# EAGLE library part MIC4604YM (library MIC4604)
IC DRIVER MOSFET 85V 8-SOIC
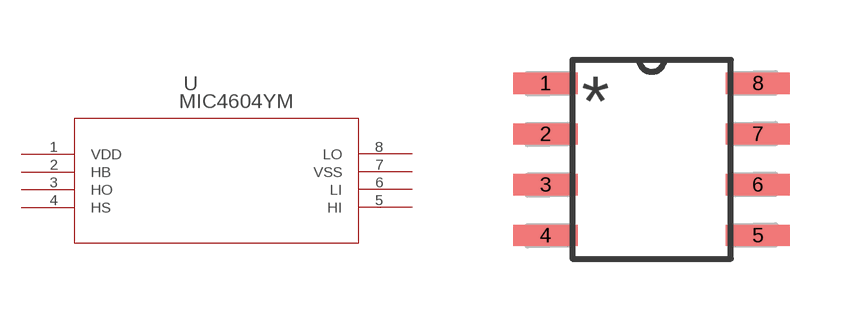
[diagram p0: symbol with the pads of SOIC-8_M; footprint SOIC-8_M]

Designator prefix U

## MIC4604YM (DIGIKEY_PART_NUMBER: 576-4395-1-ND; MANUFACTURER: Microchip; MANUFACTURER_PART_NUMBER: MIC4604YM-T5; PRICE: $1.25)  [SOIC-8_M]
1  VDD  pwr
2  HB  pas
3  HO  out
4  HS  pas
5  HI  in
6  LI  in
7  VSS  pwr
8  LO  out

## Footprint SOIC-8_M (pad centres in mm)
smd 1.6 x 0.533: 1 -2.654,1.905; 2 -2.654,0.635; 3 -2.654,-0.635; 4 -2.654,-1.905; 5 2.654,-1.905; 6 2.654,-0.635; 7 2.654,0.635; 8 2.654,1.905